# Altium schematic symbol library connectors.SchLib: 2 symbols
Pins are listed as number, name and electrical type; pins without a type are passive.

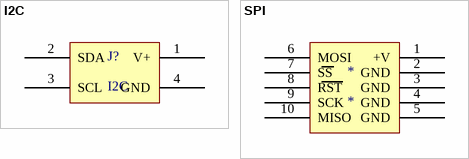
[diagram p0: symbols I2C to SPI]

## I2C
designator J?
pins: 1 V+, 2 SDA, 3 SCL, 4 GND

## SPI
designator *
pins: 1 +V, 2 GND, 3 GND, 4 GND, 5 GND, 6 MOSI, 7 SS, 8 RST, 9 SCK, 10 MISO